# EAGLE library part ADUM-1251 (library zz-upenn 2)
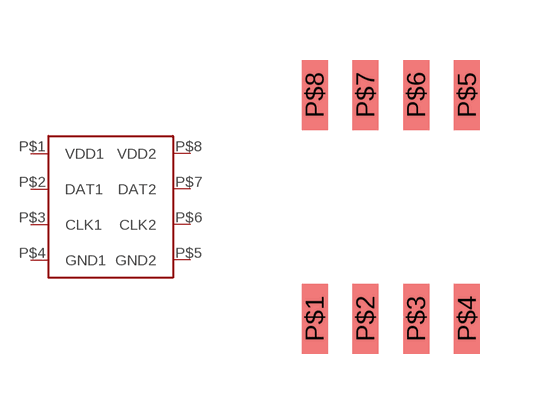
[diagram p31: symbol with the pads of SOIC-8; footprint SOIC-8]

Designator prefix -

## ADUM-1251  [SOIC-8]
P$1  VDD1
P$2  DAT1
P$3  CLK1
P$4  GND1
P$5  GND2
P$6  CLK2
P$7  DAT2
P$8  VDD2

## Footprint SOIC-8 (pad centres in mm)
smd 0.65 x 1.75: P$1 -1.905,-2.8; P$2 -0.635,-2.8; P$3 0.635,-2.8; P$4 1.905,-2.8; P$5 1.905,2.8; P$6 0.635,2.8; P$7 -0.635,2.8; P$8 -1.905,2.8